# EAGLE library part LTC3130 (library GlacTracker)
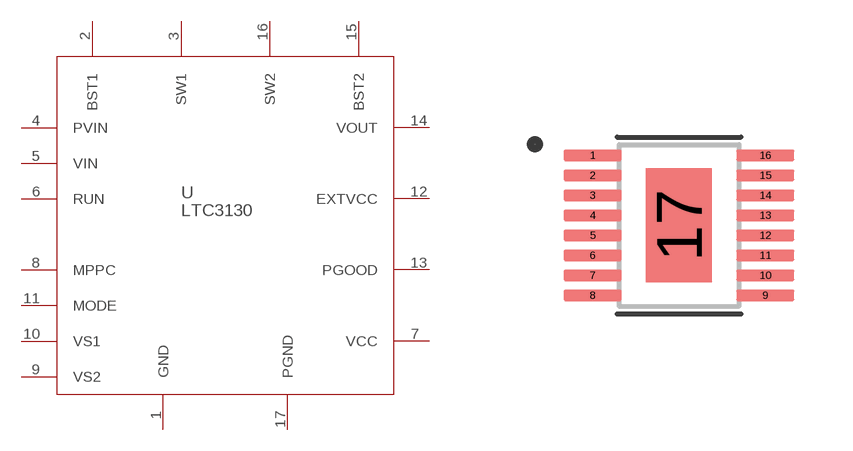
[diagram p0: symbol with the pads of SOP50P490X110-17N; footprint SOP50P490X110-17N]

Designator prefix U

## LTC3130  [SOP50P490X110-17N]
1  GND
2  BST1
3  SW1
4  PVIN
5  VIN
6  RUN
7  VCC
8  MPPC
9  VS2
10  VS1
11  MODE
12  EXTVCC
13  PGOOD
14  VOUT
15  BST2
16  SW2
17  PGND

## Footprint SOP50P490X110-17N (pad centres in mm)
smd 1.45 x 0.28: 1 -2.16,1.75; 2 -2.16,1.25; 3 -2.16,0.75; 4 -2.16,0.25; 5 -2.16,-0.25; 6 -2.16,-0.75; 7 -2.16,-1.25; 8 -2.16,-1.75; 9 2.16,-1.75; 10 2.16,-1.25; 11 2.16,-0.75; 12 2.16,-0.25; 13 2.16,0.25; 14 2.16,0.75; 15 2.16,1.25; 16 2.16,1.75
smd 1.651 x 2.845: 17 0,0